# Altium footprint library SMD24-SPE-NEO7.PcbLib: 1 footprints
Each footprint in its own frame and in the unit in brackets; x right, y up, seen from the top. Pads: shape width x height; smd on the part's side, far side on the other; paste and mask are expansions set on the pad; w line width, h text height; cw(c..) or ccw(c..) is an arc to the next point about the centre after c.
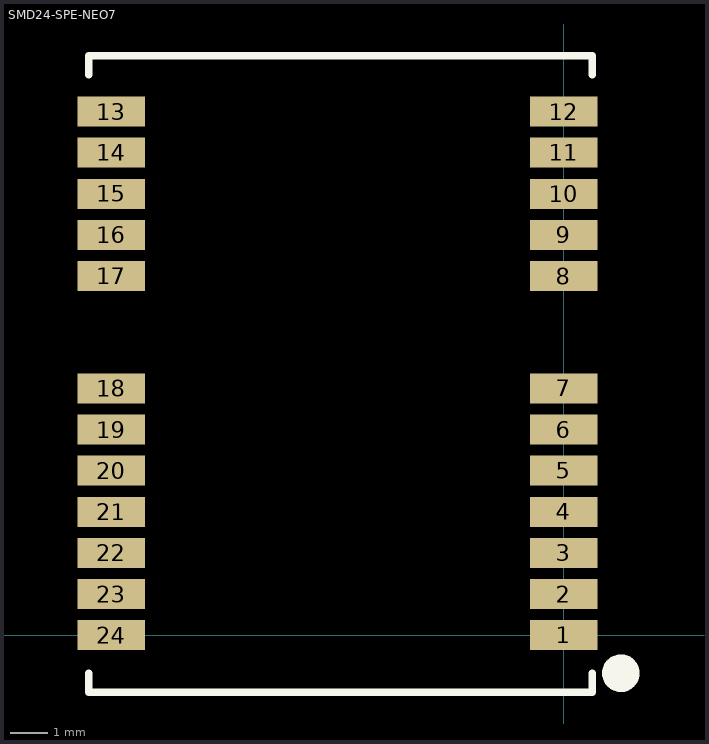
[diagram p0: the footprint, top view; thin cyan lines are the x and y axes]

## SMD24-SPE-NEO7 [mm]
pads (24):
  rect 1.8x0.8 smd: 1(0,0) 2(0,1.1) 3(0,2.2) 4(0,3.3) 5(0,4.4) 6(0,5.5) 7(0,6.6) 8(0,9.604) 9(0,10.704) 10(0,11.804) 11(0,12.904) 12(0,14.004) 13(-12.1,14.004) 14(-12.1,12.904) 15(-12.1,11.804) 16(-12.1,10.704) 17(-12.1,9.604) 18(-12.1,6.6) 19(-12.1,5.5) 20(-12.1,4.4) 21(-12.1,3.3) 22(-12.1,2.2) 23(-12.1,1.1) 24(-12.1,0)
Top Overlay:
  circle w0.5: c1.524,-1.016 r0.254
  lines w0.2: -12.7,-1.016 -12.7,-1.524 0.762,-1.524 0.762,-1.016 ; -12.7,14.986 -12.7,15.494 0.762,15.494 0.762,14.986
3D body: height 3, standoff 0, extent -12.7,-1.27 0.508,15.24